# EAGLE library part MAG3110 (library freescale-semi)
Three-Axis, Digital Magnetometer
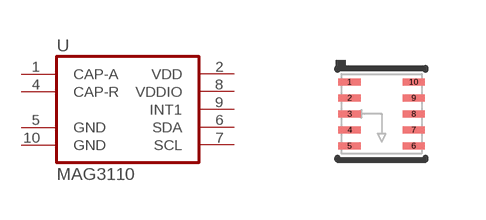
[diagram p6: symbol with the pads of DFN10; footprint DFN10]

Designator prefix U

## MAG3110  [DFN10]
1  CAP-A  in
2  VDD  pwr
4  CAP-R  in
5  GND  pwr
6  SDA
7  SCL
8  VDDIO  pwr
9  INT1  out
10  GND  pwr

## Footprint DFN10 (pad centres in mm)
10-PIN DFN pitch 0.4 mm, body 2 mm x 2 mm x 0.85 mm CASE 2154-02
smd 0.55 x 0.175: 1 -0.8,0.8; 2 -0.8,0.4; 3 -0.8,0; 4 -0.8,-0.4; 5 -0.8,-0.8; 6 0.8,-0.8; 7 0.8,-0.4; 8 0.8,0; 9 0.8,0.4; 10 0.8,0.8